# Altium footprint library 2-pos screw terminal phoenix.PcbLib: 1 footprints
Each footprint in its own frame and in the unit in brackets; x right, y up, seen from the top. Pads: shape width x height; smd on the part's side, far side on the other; paste and mask are expansions set on the pad; w line width, h text height; cw(c..) or ccw(c..) is an arc to the next point about the centre after c.
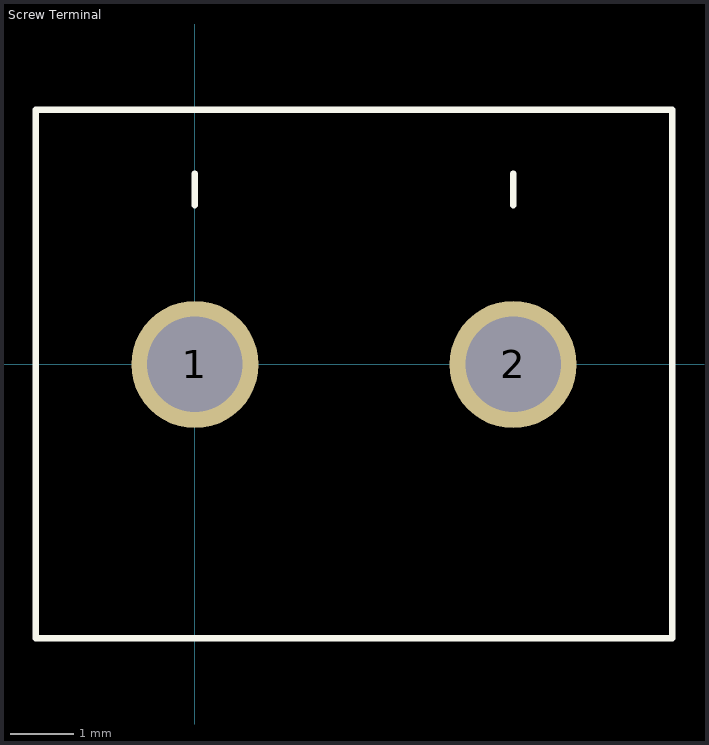
[diagram p0: the footprint, top view; thin cyan lines are the x and y axes]

## Screw Terminal [mm] "Phoenix Screw Terminal"
height 11.4
pads (2):
  round 2 hole 1.5: 1(0,0) 2(5,0)
Top Overlay:
  lines w0.1: 0,2.5 0,3 ; 5,2.5 5,3 ; -2.5,-4.3 7.5,-4.3 7.5,4 -2.5,4 -2.5,-4.3